# EAGLE library part A-PRO-MINI-32U4 (library we-board)
Wattuino Pro Mini 32U4 (Arduino Pro Mini Clone with ATmega32u4)
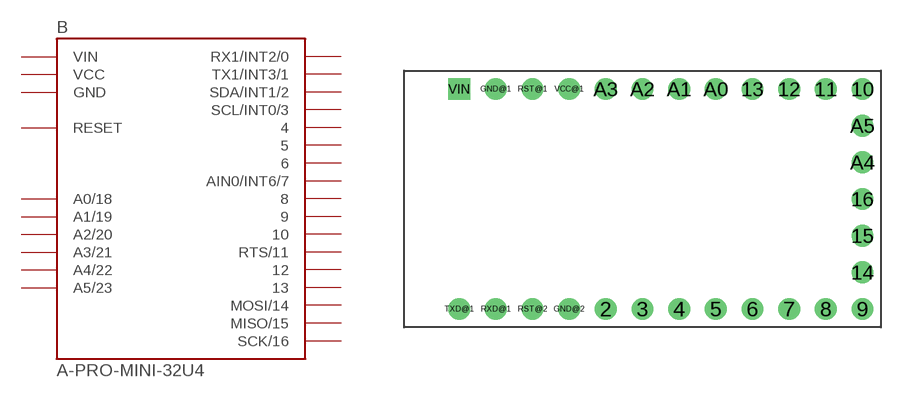
[diagram p17: symbol with the pads of A-PRO-MINI-32U4_TP; footprint A-PRO-MINI-32U4_TP]

Designator prefix B

## A-PRO-MINI-32U4-TP  [A-PRO-MINI-32U4_TP]
2  SDA/INT1/2
3  SCL/INT0/3
4  4
5  5
6  6
7  AIN0/INT6/7
8  8
9  9
10  10
11  RTS/11
12  12
13  13
14  MOSI/14
15  MISO/15
16  SCK/16
A0  A0/18
A1  A1/19
A2  A2/20
A3  A3/21
A4  A4/22
A5  A5/23
GND@1  GND  pwr
GND@2  GND  pwr
RST@1  RESET
RST@2  RESET
RXD@1  RX1/INT2/0
TXD@1  TX1/INT3/1
VCC@1  VCC  pwr
VIN  VIN  pwr

## Footprint A-PRO-MINI-32U4_TP (pad centres in mm)
21 tPlace
drill 1: 2 -2.54,-7.62; 3 0,-7.62; 4 2.54,-7.62; 5 5.08,-7.62; 6 7.62,-7.62; 7 10.16,-7.62; 8 12.7,-7.62; 9 15.24,-7.62; 10 15.24,7.62; 11 12.7,7.62; 12 10.16,7.62; 13 7.62,7.62; 14 15.24,-5.08; 15 15.24,-2.54; 16 15.24,0; A0 5.08,7.62; A1 2.54,7.62; A2 0,7.62; A3 -2.54,7.62; A4 15.24,2.54; A5 15.24,5.08; GND@1 -10.16,7.62; GND@2 -5.08,-7.62; RST@1 -7.62,7.62; RST@2 -7.62,-7.62; RXD@1 -10.16,-7.62; TXD@1 -12.7,-7.62; VCC@1 -5.08,7.62
drill 1 square: VIN -12.7,7.62